# Altium schematic symbol library 12061C225MAT2A.SchLib: 1 symbol
Pins are listed as number, name and electrical type; pins without a type are passive.

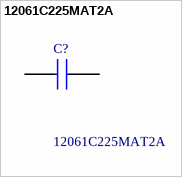
[diagram p0: symbol 12061C225MAT2A]

## 12061C225MAT2A
designator C?
Multilayer Ceramic Capacitors MLCC - SMD/SMT 100V 2.2uF X7R 1206 20%TOL HIGH CV; Manufacturer_Name: AVX; Geometry.Height: 1.78mm; Mouser Part Number: 581-12061C225MAT2A; Mouser Price/Stock: https://www.mouser.com/Search/Refine.aspx?Keyword=581-12061C225MAT2A; Manufacturer_Part_Number: 12061C225MAT2A; Datasheet Link: https://componentsearchengine.com/Datasheets/1/12061C225MAT2A.pdf
footprint CAPC3216X178N
pins: 1, 2